# Altium footprint library Sensors.PcbLib: 17 footprints (part 2 of 2)
Each footprint in its own frame and in the unit in brackets; x right, y up, seen from the top. Pads: shape width x height; smd on the part's side, far side on the other; paste and mask are expansions set on the pad; w line width, h text height; cw(c..) or ccw(c..) is an arc to the next point about the centre after c.
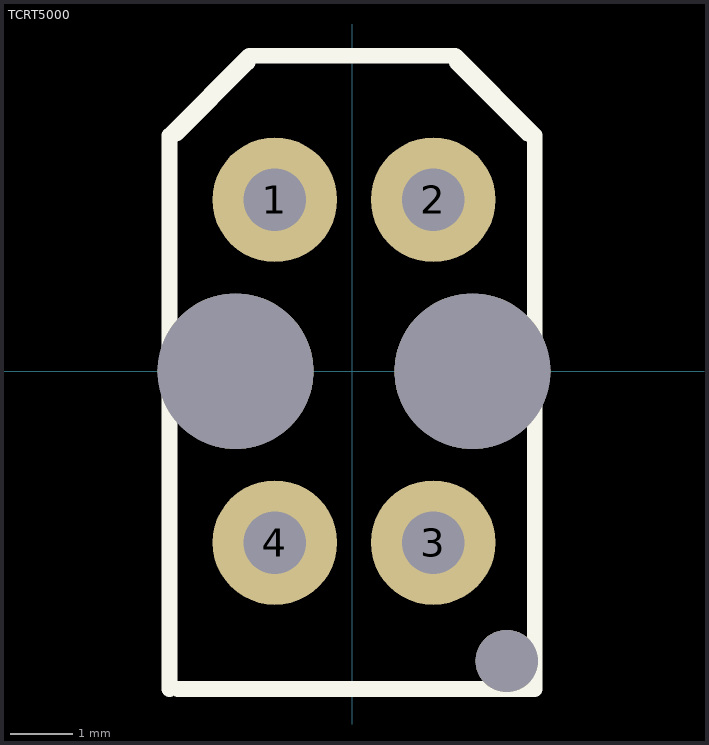
[diagram p1: the footprint, top view; thin cyan lines are the x and y axes]

## TCRT5000 [mm] "REFLECTIVE OPTICAL SENSOR PTH"
pads (7):
  round 2 hole 1: 1(-1.241,2.748) 2(1.299,2.748) 3(1.299,-2.752) 4(-1.241,-2.752)
  round 2.5 hole 2.5 unplated: ""(-1.871,-0.002) ""(1.929,-0.002)
  round 1 hole 1 unplated: ""(2.479,-4.652)
Top Overlay:
  lines w0.254: -2.929,-5.102 -2.929,3.78 -1.651,5.058 1.651,5.058 2.929,3.78 2.929,-5.102 -2.794,-5.102 ; -2.823,3.808 -1.68,4.951 ; 1.68,4.951 2.823,3.808
Mechanical 15:
  circle w0.45: c2.479,-4.652 r0.225
3D body "TCRT5000.stp": height 7.02, standoff -3.5, extent -3.5,-5.122 3.5,5.078